# EAGLE library part 62302021021 (library Wurth_Elektronik2)
WR-PHD 1.27mm Dual SMT Socket Header H=4.50mm, 20 Pins=>Code : Con_BTB_SHD_1.27_2_62302021021 <http://katalog.we-online.de/media/thumbs2/eican/thb_Con_BTB_SHD_1.27_2_6230xx21021_pf2.jpg> Details see: http://katalog.we-online.de/en/em/623_0xx_210_21 Created 2014-06-04, Karrer Zheng 2014 (C) Würth Elektronik
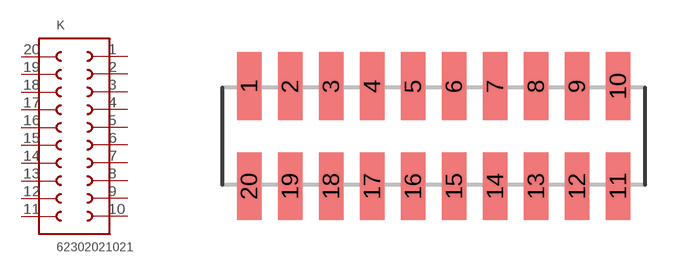
[diagram p311: symbol with the pads of 62302021021; footprint 62302021021]

Designator prefix K

## 62302021021  [62302021021]
1  1  pas
2  2  pas
3  3  pas
4  4  pas
5  5  pas
6  6  pas
7  7  pas
8  8  pas
9  9  pas
10  10  pas
11  11  pas
12  12  pas
13  13  pas
14  14  pas
15  15  pas
16  16  pas
17  17  pas
18  18  pas
19  19  pas
20  20  pas

## Footprint 62302021021 (pad centres in mm)
WR-PHD 1.27mm Dual SMT Socket Header H=4.50mm, 20 Pins
smd 0.75 x 2.1: 1 -5.715,1.55; 2 -4.445,1.55; 3 -3.175,1.55; 4 -1.905,1.55; 5 -0.635,1.55; 6 0.635,1.55; 7 1.905,1.55; 8 3.175,1.55; 9 4.445,1.55; 10 5.715,1.55; 11 5.715,-1.55; 12 4.445,-1.55; 13 3.175,-1.55; 14 1.905,-1.55; 15 0.635,-1.55; 16 -0.635,-1.55; 17 -1.905,-1.55; 18 -3.175,-1.55; 19 -4.445,-1.55; 20 -5.715,-1.55